# Altium footprint library QUECTEL_VTS_pcblib.PcbLib: 7 footprints
Each footprint in its own frame and in the unit in brackets; x right, y up, seen from the top. Pads: shape width x height; smd on the part's side, far side on the other; paste and mask are expansions set on the pad; w line width, h text height; cw(c..) or ccw(c..) is an arc to the next point about the centre after c.
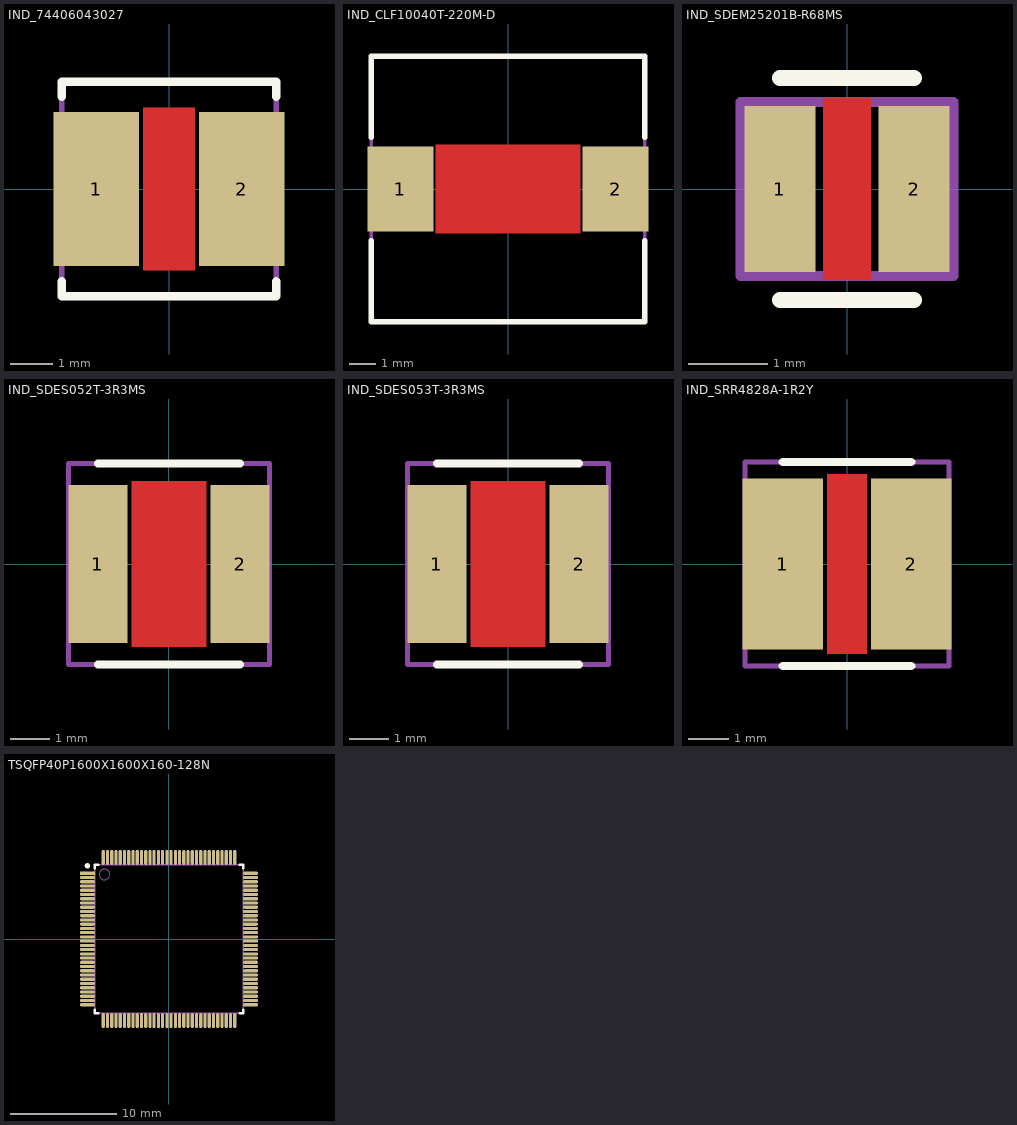
[diagram p0: the footprints below, top view; thin cyan lines are the x and y axes]

## IND_74406043027 [mm]
height 3
pads (2):
  rect 2x3.6 smd: 1(-1.7,0) 2(1.7,0)
Top Layer:
  pour cut-out: -0.599,1.901 -0.599,1.902 0.599,1.902 0.599,-1.902 0.599,-1.901 -0.599,-1.901 -0.599,1.901 -0.598,1.901
Top Overlay:
  lines w0.203: -2.5,-2.156 -2.5,-2.5 2.5,-2.5 2.5,-2.156 ; -2.5,2.156 -2.5,2.5 2.5,2.5 2.5,2.156
Mechanical 1:
  text ".Designator" at -0.35,-0.39 h1.52
Mechanical 15:
  pour cut-out: -0.599,1.901
  lines w0.127: -2.5,-2.5 2.5,-2.5 2.5,2.5 -2.5,2.5 -2.5,-2.5
3D body: height 2.8, standoff 0, extent -2.4,-2.4 2.4,2.4

## IND_CLF10040T-220M-D [mm]
height 4.1
pads (2):
  rect 2.5x3.2 smd mask+0.076: 1(-4.05,0) 2(4.05,0)
Top Layer:
  pour cut-out: -2.724,1.676 2.724,1.676 2.724,-1.676 -2.724,-1.676 -2.724,1.676
Top Overlay:
  lines w0.203: -5.15,-1.956 -5.15,-5 5.15,-5 5.15,-1.956 ; -5.15,1.956 -5.15,5 5.15,5 5.15,1.956
Mechanical 1:
  text ".Designator" at -0.5,-0.5 h1.52
Mechanical 15:
  lines w0.127: -5.15,-5 5.15,-5 5.15,5 -5.15,5 -5.15,-5
3D body: height 4.1, standoff 0, extent -5.213,-5.064 5.213,5.064

## IND_SDEM25201B-R68MS [mm]
height 1.2
pads (2):
  rect 0.9x2.1 smd: 1(-0.85,0) 2(0.85,0)
Top Layer:
  pour cut-out: -0.299,1.152 0.298,1.152 0.299,1.151 0.299,-1.152 -0.299,-1.152 -0.299,-1.151 -0.298,-1.151
Top Overlay:
  lines w0.203: -0.85,-1.405 0.85,-1.405 ; -0.85,1.405 0.85,1.405
Mechanical 1:
  text ".Designator" at -0.25,-0.39 h1.52
Mechanical 15:
  lines w0.127: -1.35,-1.1 1.35,-1.1 1.35,1.1 -1.35,1.1 -1.35,-1.1
3D body: height 1.2, standoff 0, extent -1.349,-1.099 1.349,1.099

## IND_SDES052T-3R3MS [mm]
height 2
pads (2):
  rect 1.5x4 smd: 1(-1.8,0) 2(1.8,0)
Top Layer:
  pour cut-out: -0.949,2.102 -0.948,2.101 0.949,2.101 0.949,-2.101 0.948,-2.101 -0.949,-2.101
Top Overlay:
  lines w0.203: -1.8,-2.55 1.8,-2.55 ; -1.8,2.55 1.8,2.55
Mechanical 1:
  text ".Designator" at 0.1,-0.4 h1.52
Mechanical 15:
  lines w0.127: -2.55,-2.55 -2.55,2.55 2.55,2.55 2.55,-2.55 -2.55,-2.55
3D body: height 3, standoff 0, extent -2.549,-2.549 2.549,2.549

## IND_SDES053T-3R3MS [mm]
height 3
pads (2):
  rect 1.5x4 smd: 1(-1.8,0) 2(1.8,0)
Top Layer:
  pour cut-out: -0.949,2.102 -0.948,2.101 0.949,2.101 0.949,-2.101 0.948,-2.101 -0.949,-2.101
Top Overlay:
  lines w0.203: -1.8,-2.55 1.8,-2.55 ; -1.8,2.55 1.8,2.55
Mechanical 1:
  text ".Designator" at 0.1,-0.4 h1.52
Mechanical 15:
  lines w0.127: -2.55,-2.55 2.55,-2.55 2.55,2.55 -2.55,2.55 -2.55,-2.55
3D body: height 3, standoff 0, extent -2.549,-2.549 2.549,2.549

## IND_SRR4828A-1R2Y [mm]
height 3
pads (2):
  rect 1.98x4.2 smd mask+0.102: 1(-1.575,0) 2(1.575,0)
Top Layer:
  pour cut-out: -0.483,2.202 -0.482,2.201 0.484,2.201 0.484,-2.201 0.483,-2.201 -0.484,-2.201 -0.484,2.201
  pour cut-out: -0.483,2.202
Top Overlay:
  lines w0.203: -1.575,-2.5 1.575,-2.5 ; -1.575,2.5 1.575,2.5
Mechanical 1:
  text ".Designator" at 0,-0.5 h1.52
Mechanical 15:
  lines w0.127: -2.5,-2.5 -2.5,2.5 2.5,2.5 2.5,-2.5 -2.5,-2.5
3D body: height 3, standoff 0, extent -2.499,-2.499 2.499,2.499

## TSQFP40P1600X1600X160-128N [mm] "TSQFP, 128-Leads, Body 14.00x14.00mm, Pitch 0.40mm, IPC Medium Density"
height 1.6
pads (128):
  rect 1.4x0.3 smd: 1(-7.7,6.2)
  oval 1.4x0.3 smd: 2(-7.7,5.8) 3(-7.7,5.4) 4(-7.7,5) 5(-7.7,4.6) 6(-7.7,4.2) 7(-7.7,3.8) 8(-7.7,3.4) 9(-7.7,3) 10(-7.7,2.6) 11(-7.7,2.2) 12(-7.7,1.8) 13(-7.7,1.4) 14(-7.7,1) 15(-7.7,0.6) 16(-7.7,0.2) 17(-7.7,-0.2) 18(-7.7,-0.6) 19(-7.7,-1) 20(-7.7,-1.4) 21(-7.7,-1.8) 22(-7.7,-2.2) 23(-7.7,-2.6) 24(-7.7,-3) 25(-7.7,-3.4) 26(-7.7,-3.8) 27(-7.7,-4.2) 28(-7.7,-4.6) 29(-7.7,-5) 30(-7.7,-5.4) 31(-7.7,-5.8) 32(-7.7,-6.2) 65(7.7,-6.2) 66(7.7,-5.8) 67(7.7,-5.4) 68(7.7,-5) 69(7.7,-4.6) 70(7.7,-4.2) 71(7.7,-3.8) 72(7.7,-3.4) 73(7.7,-3) 74(7.7,-2.6) 75(7.7,-2.2) 76(7.7,-1.8) 77(7.7,-1.4) 78(7.7,-1) 79(7.7,-0.6) 80(7.7,-0.2) 81(7.7,0.2) 82(7.7,0.6) 83(7.7,1) 84(7.7,1.4) 85(7.7,1.8) 86(7.7,2.2) 87(7.7,2.6) 88(7.7,3) 89(7.7,3.4) 90(7.7,3.8) 91(7.7,4.2) 92(7.7,4.6) 93(7.7,5) 94(7.7,5.4) 95(7.7,5.8) 96(7.7,6.2)
  oval 0.3x1.4 smd: 33(-6.2,-7.7) 34(-5.8,-7.7) 35(-5.4,-7.7) 36(-5,-7.7) 37(-4.6,-7.7) 38(-4.2,-7.7) 39(-3.8,-7.7) 40(-3.4,-7.7) 41(-3,-7.7) 42(-2.6,-7.7) 43(-2.2,-7.7) 44(-1.8,-7.7) 45(-1.4,-7.7) 46(-1,-7.7) 47(-0.6,-7.7) 48(-0.2,-7.7) 49(0.2,-7.7) 50(0.6,-7.7) 51(1,-7.7) 52(1.4,-7.7) 53(1.8,-7.7) 54(2.2,-7.7) 55(2.6,-7.7) 56(3,-7.7) 57(3.4,-7.7) 58(3.8,-7.7) 59(4.2,-7.7) 60(4.6,-7.7) 61(5,-7.7) 62(5.4,-7.7) 63(5.8,-7.7) 64(6.2,-7.7) 97(6.2,7.7) 98(5.8,7.7) 99(5.4,7.7) 100(5,7.7) 101(4.6,7.7) 102(4.2,7.7) 103(3.8,7.7) 104(3.4,7.7) 105(3,7.7) 106(2.6,7.7) 107(2.2,7.7) 108(1.8,7.7) 109(1.4,7.7) 110(1,7.7) 111(0.6,7.7) 112(0.2,7.7) 113(-0.2,7.7) 114(-0.6,7.7) 115(-1,7.7) 116(-1.4,7.7) 117(-1.8,7.7) 118(-2.2,7.7) 119(-2.6,7.7) 120(-3,7.7) 121(-3.4,7.7) 122(-3.8,7.7) 123(-4.2,7.7) 124(-4.6,7.7) 125(-5,7.7) 126(-5.4,7.7) 127(-5.8,7.7) 128(-6.2,7.7)
Top Overlay:
  circle w0.25: c-7.7,6.9 r0.125
  lines w0.203: -7,-6.678 -7,-7 -6.678,-7 ; -7,6.678 -7,7 -6.678,7 ; 6.678,-7 7,-7 7,-6.678 ; 6.678,7 7,7 7,6.678
Top Solder:
  rectangle: -8.501,-6.452 -6.898,6.451
  rectangle: 6.899,-6.452 8.502,6.451
  region: 6.452,-8.501 6.452,-6.898 -6.451,-6.898 -6.451,-8.501
  region: 6.452,6.899 6.452,8.502 -6.451,8.502 -6.451,6.899
Mechanical 1:
  text "'.Designator'" at -0.127,-0.381 h1.52
Mechanical 15:
  circle w0.1: c-6.087,6.087 r0.5
  lines w0.127: -7,-7 7,-7 7,7 -7,7 -7,-7
3D body: height 1.6, standoff 0, extent -8,-8 8,8